# Altium footprint library CAPC1632X114.PcbLib: 3 footprints
Each footprint in its own frame and in the unit in brackets; x right, y up, seen from the top. Pads: shape width x height; smd on the part's side, far side on the other; paste and mask are expansions set on the pad; w line width, h text height; cw(c..) or ccw(c..) is an arc to the next point about the centre after c.
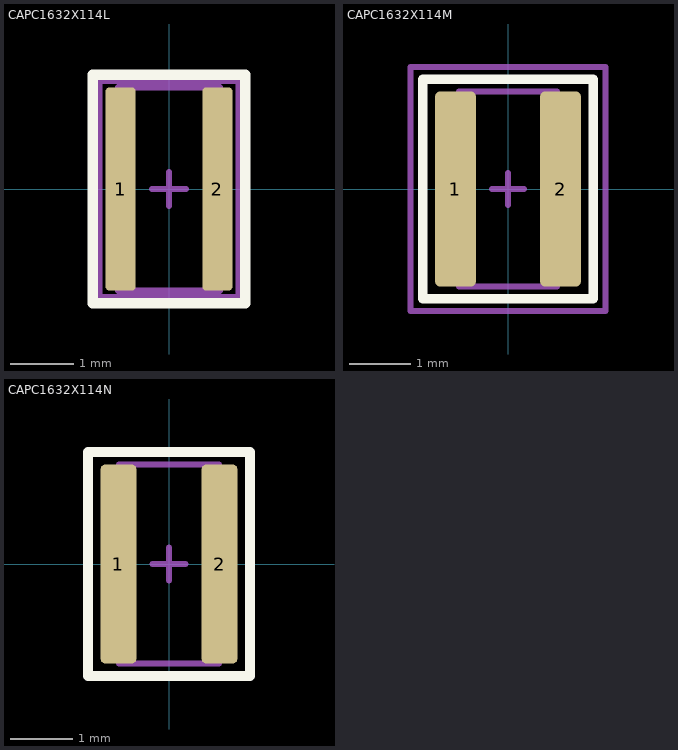
[diagram p0: the footprints below, top view; thin cyan lines are the x and y axes]

## CAPC1632X114L [mm] "Capacitors, Chip, Non-polarized"
height 1.25
pads (2):
  rrect25% 0.475x3.2 smd: 1(-0.762,0) 2(0.762,0)
Top Overlay:
  lines w0.16: -1.2,-1.8 1.2,-1.8 1.2,1.8 -1.2,1.8 -1.2,-1.8
Top Component Center:
  lines w0.1: -0.262,0 0.262,0 ; 0,-0.262 0,0.262
Top Courtyard:
  lines w0.1: -1.1,-1.7 1.1,-1.7 1.1,1.7 -1.1,1.7 -1.1,-1.7
Top Assembly:
  lines w0.1: -0.8,-1.6 0.8,-1.6 0.8,1.6 -0.8,1.6 -0.8,-1.6
  text ".Designator" at 0,0 h1
3D body "CAPC1632X114L.STEP": height 1.15, standoff 0, extent -0.8,-1.6 0.8,1.6

## CAPC1632X114M [mm] "Capacitors, Chip, Non-polarized"
height 1.25
pads (2):
  rrect25% 0.675x3.2 smd: 1(-0.862,0) 2(0.862,0)
Top Overlay:
  lines w0.16: -1.4,-1.8 1.4,-1.8 1.4,1.8 -1.4,1.8 -1.4,-1.8
Top Component Center:
  lines w0.1: -0.262,0 0.262,0 ; 0,-0.262 0,0.262
Top Courtyard:
  lines w0.1: -1.6,-2 1.6,-2 1.6,2 -1.6,2 -1.6,-2
Top Assembly:
  lines w0.1: -0.8,-1.6 0.8,-1.6 0.8,1.6 -0.8,1.6 -0.8,-1.6
  text ".Designator" at 0,0 h1
3D body "CAPC1632X114M.STEP": height 1.15, standoff 0, extent -0.8,-1.6 0.8,1.6

## CAPC1632X114N [mm] "Capacitors, Chip, Non-polarized"
height 1.25
pads (2):
  rrect25% 0.575x3.2 smd: 1(-0.812,0) 2(0.812,0)
Top Overlay:
  lines w0.16: -1.3,-1.8 1.3,-1.8 1.3,1.8 -1.3,1.8 -1.3,-1.8
Top Component Center:
  lines w0.1: -0.262,0 0.262,0 ; 0,-0.262 0,0.262
Top Courtyard:
  lines w0.1: -1.3,-1.8 1.3,-1.8 1.3,1.8 -1.3,1.8 -1.3,-1.8
Top Assembly:
  lines w0.1: -0.8,-1.6 0.8,-1.6 0.8,1.6 -0.8,1.6 -0.8,-1.6
  text ".Designator" at 0,0 h1
3D body "CAPC1632X114N.STEP": height 1.15, standoff 0, extent -0.8,-1.6 0.8,1.6